# Altium footprint library MP900.PcbLib: 1 footprints
Each footprint in its own frame and in the unit in brackets; x right, y up, seen from the top. Pads: shape width x height; smd on the part's side, far side on the other; paste and mask are expansions set on the pad; w line width, h text height; cw(c..) or ccw(c..) is an arc to the next point about the centre after c.
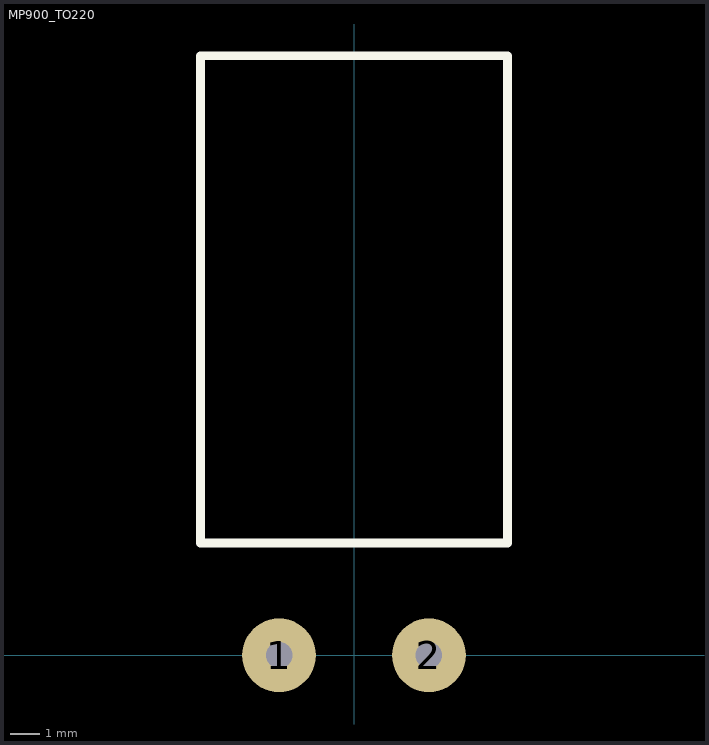
[diagram p0: the footprint, top view; thin cyan lines are the x and y axes]

## MP900_TO220 [mm]
pads (2):
  round 2.5 hole 0.9: 1(-2.54,0) 2(2.54,0)
Top Overlay:
  lines w0.3: -5.207,3.81 5.207,3.81 5.207,20.32 -5.207,20.32 -5.207,3.81
3D body: height 3.17, standoff 0, extent -5.207,3.81 5.207,20.32